# Altium integrated library TPS2117DRLR.IntLib: 1 symbol
Pins are listed as number, name and electrical type; pins without a type are passive.

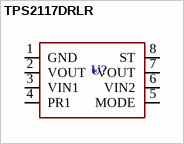
[diagram p0: symbol TPS2117DRLR]

## TPS2117DRLR
designator U?  (value not drawn)
Analog Switches / Multiplexers. -40C~+105C 1.6V~5.5V 2 20mohm 2:1 Fault protection SOT-5X3 Analog Switches, Multiplexers ROHS; Manufacturer: Texas Instruments; Component Type: Integrated Circuits; Design Item ID: TPS2117DRLR; Value: *; JLCPCB Part #: C22399676; Manufacturer Part Number: TPS2117DRLR
footprint TPS2117DRLR (SOT-583-8_L2.1-W1.2-P0.50-LS1.6-BL)
pins: 1 GND, 2 VOUT, 3 VIN1, 4 PR1, 5 MODE, 6 VIN2, 7 VOUT, 8 ST